# Altium footprint library Connector_Molex.PcbLib: 815 footprints (part 29 of 51)
Each footprint in its own frame and in the unit in brackets; x right, y up, seen from the top. Pads: shape width x height; smd on the part's side, far side on the other; paste and mask are expansions set on the pad; w line width, h text height; cw(c..) or ccw(c..) is an arc to the next point about the centre after c.
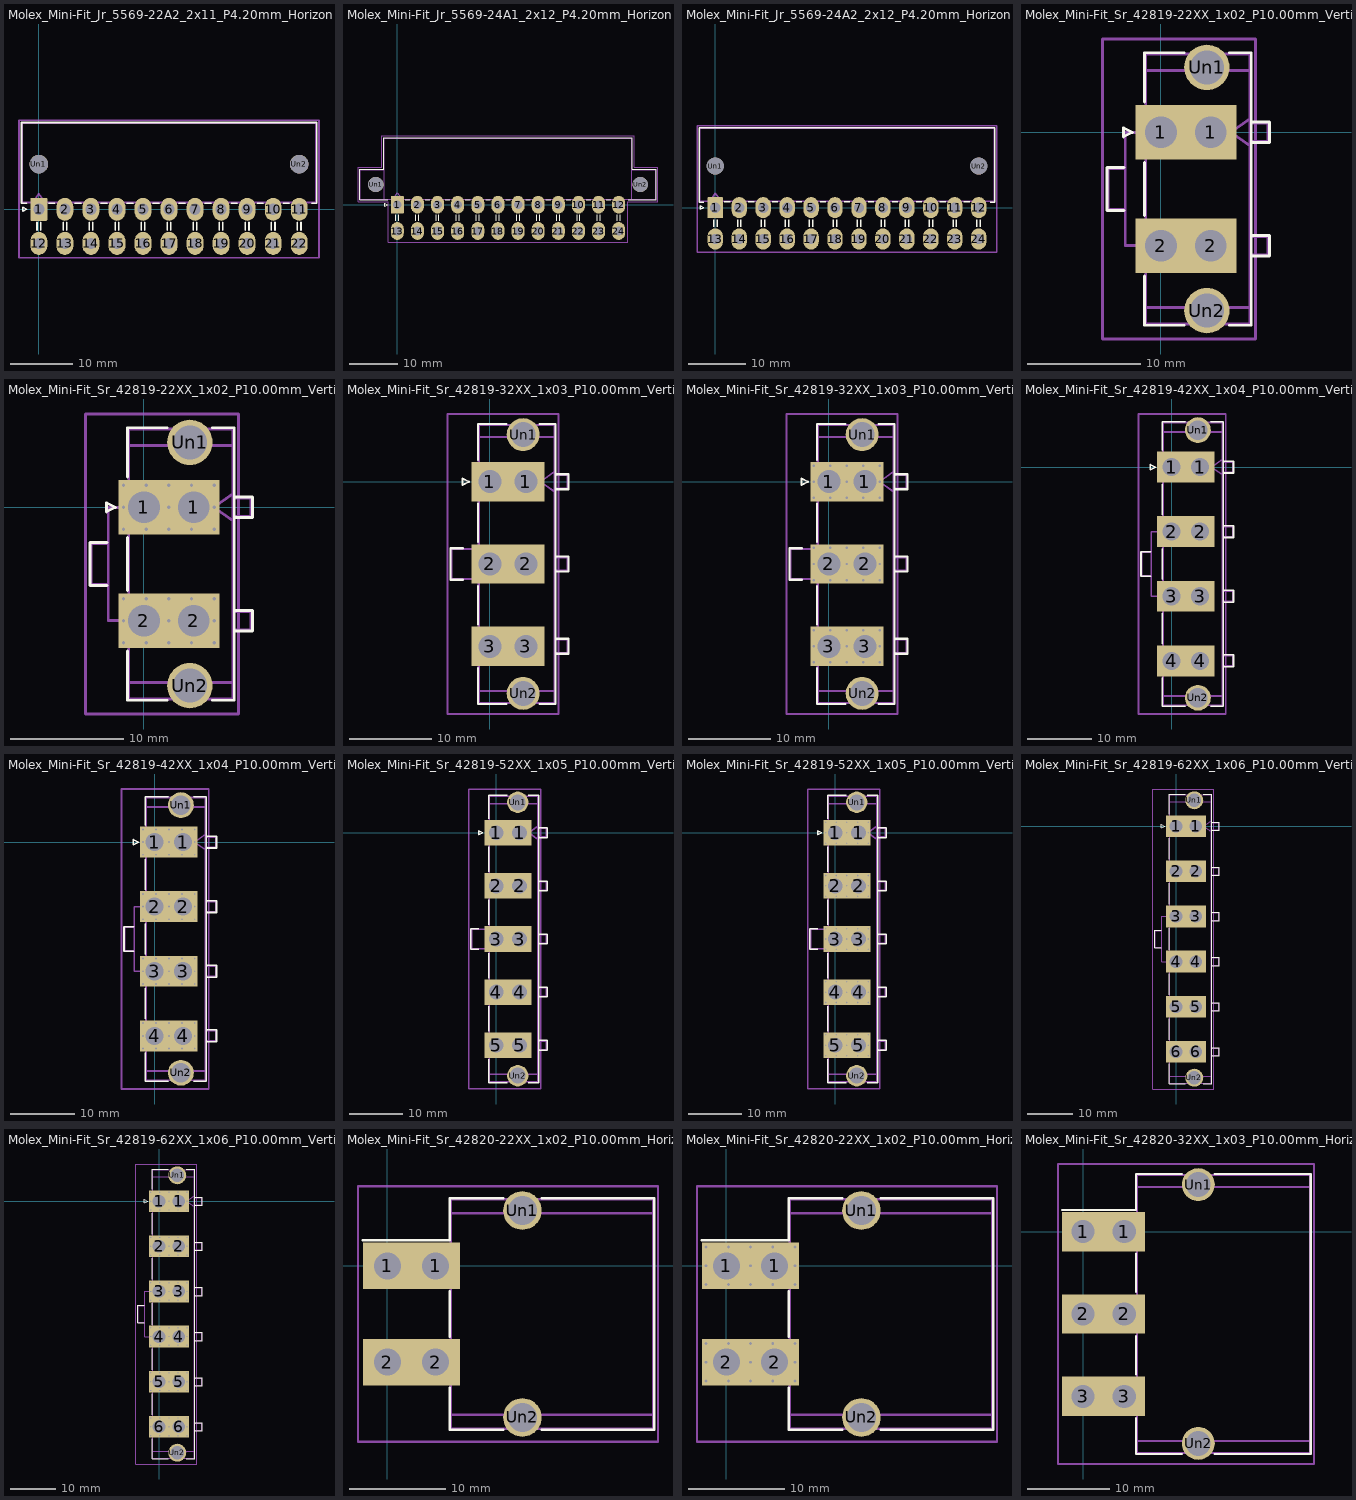
[diagram p28: the footprints below, top view; thin cyan lines are the x and y axes]

## Molex_Mini-Fit_Jr_5569-22A2_2x11_P4.20mm_Horizontal [mm]
pads (24):
  rrect9% 2.7x3.7 hole 1.8: 1(0,0)
  rrect100% 2.7x3.7 hole 1.8: 2(4.2,0) 3(8.4,0) 4(12.6,0) 5(16.8,0) 6(21,0) 7(25.2,0) 8(29.4,0) 9(33.6,0) 10(37.8,0) 11(42,0) 12(0,-5.5) 13(4.2,-5.5) 14(8.4,-5.5) 15(12.6,-5.5) 16(16.8,-5.5) 17(21,-5.5) 18(25.2,-5.5) 19(29.4,-5.5) 20(33.6,-5.5) 21(37.8,-5.5) 22(42,-5.5)
  round 3 hole 3: Un1(0,7.3) Un2(42,7.3)
F.SilkS:
  lines w0.254: -2,0.99 -2.81,0.99 -2.81,14.01 21,14.01 44.81,14.01 44.81,0.99 44,0.99 ; -0.3,-3.39 -0.3,-2.11 ; 0.3,-3.39 0.3,-2.11 ; 1.61,1 2.59,1 ; 3.9,-3.39 3.9,-2.11 ; 4.5,-3.39 4.5,-2.11 ; 5.81,1 6.79,1 ; 8.1,-3.39 8.1,-2.11 ; 8.7,-3.39 8.7,-2.11 ; 10.01,1 10.99,1 ; 12.3,-3.39 12.3,-2.11 ; 12.9,-3.39 12.9,-2.11 ; 14.21,1 15.19,1 ; 16.5,-3.39 16.5,-2.11 ; 17.1,-3.39 17.1,-2.11 ; 18.41,1 19.39,1 ; 20.7,-3.39 20.7,-2.11 ; 21.3,-3.39 21.3,-2.11 ; 22.61,1 23.59,1 ; 24.9,-3.39 24.9,-2.11 ; 25.5,-3.39 25.5,-2.11 ; 26.81,1 27.79,1 ; 29.1,-3.39 29.1,-2.11 ; 29.7,-3.39 29.7,-2.11 ; 31.01,1 31.99,1 ; 33.3,-3.39 33.3,-2.11 ; 33.9,-3.39 33.9,-2.11 ; 35.21,1 36.19,1 ; 37.5,-3.39 37.5,-2.11 ; 38.1,-3.39 38.1,-2.11 ; 39.41,1 40.39,1 ; 41.7,-3.39 41.7,-2.11 ; 42.3,-3.39 42.3,-2.11 ; -2.6,-0.3 -2,0 -2.6,0.3 -2.6,-0.3
Top Assembly:
  lines w0.254: -1,1.1 0,2.514 1,1.1 ; -2.7,1.1 44.7,1.1 44.7,13.9 -2.7,13.9 -2.7,1.1
  text "'.Designator'" at 16.953,12.36 h1
Top Courtyard:
  lines w0.254: -3.21,-7.85 45.2,-7.85 45.2,14.4 -3.21,14.4 -3.21,-7.85
Top Designator:
  text ".Designator" at 13.377,2.767 h1.52

## Molex_Mini-Fit_Jr_5569-24A1_2x12_P4.20mm_Horizontal [mm]
pads (26):
  rrect9% 2.7x3.7 hole 1.8: 1(0,0)
  rrect100% 2.7x3.7 hole 1.8: 2(4.2,0) 3(8.4,0) 4(12.6,0) 5(16.8,0) 6(21,0) 7(25.2,0) 8(29.4,0) 9(33.6,0) 10(37.8,0) 11(42,0) 12(46.2,0) 13(0,-5.5) 14(4.2,-5.5) 15(8.4,-5.5) 16(12.6,-5.5) 17(16.8,-5.5) 18(21,-5.5) 19(25.2,-5.5) 20(29.4,-5.5) 21(33.6,-5.5) 22(37.8,-5.5) 23(42,-5.5) 24(46.2,-5.5)
  round 3.2 hole 3.2: Un1(-4.5,4.2) Un2(50.7,4.2)
F.SilkS:
  lines w0.254: -2,0.99 -7.81,0.99 -7.81,7.41 -2.81,7.41 -2.81,14.01 23.1,14.01 49.01,14.01 49.01,7.41 54.01,7.41 54.01,0.99 48.2,0.99 ; -0.3,-3.39 -0.3,-2.11 ; 0.3,-3.39 0.3,-2.11 ; 1.61,1 2.59,1 ; 3.9,-3.39 3.9,-2.11 ; 4.5,-3.39 4.5,-2.11 ; 5.81,1 6.79,1 ; 8.1,-3.39 8.1,-2.11 ; 8.7,-3.39 8.7,-2.11 ; 10.01,1 10.99,1 ; 12.3,-3.39 12.3,-2.11 ; 12.9,-3.39 12.9,-2.11 ; 14.21,1 15.19,1 ; 16.5,-3.39 16.5,-2.11 ; 17.1,-3.39 17.1,-2.11 ; 18.41,1 19.39,1 ; 20.7,-3.39 20.7,-2.11 ; 21.3,-3.39 21.3,-2.11 ; 22.61,1 23.59,1 ; 24.9,-3.39 24.9,-2.11 ; 25.5,-3.39 25.5,-2.11 ; 26.81,1 27.79,1 ; 29.1,-3.39 29.1,-2.11 ; 29.7,-3.39 29.7,-2.11 ; 31.01,1 31.99,1 ; 33.3,-3.39 33.3,-2.11 ; 33.9,-3.39 33.9,-2.11 ; 35.21,1 36.19,1 ; 37.5,-3.39 37.5,-2.11 ; 38.1,-3.39 38.1,-2.11 ; 39.41,1 40.39,1 ; 41.7,-3.39 41.7,-2.11 ; 42.3,-3.39 42.3,-2.11 ; 43.61,1 44.59,1 ; 45.9,-3.39 45.9,-2.11 ; 46.5,-3.39 46.5,-2.11 ; -2.6,-0.3 -2,0 -2.6,0.3 -2.6,-0.3
Top Assembly:
  lines w0.254: -2.7,7.3 -7.7,7.3 -7.7,1.1 -2.7,1.1 ; -1,1.1 0,2.514 1,1.1 ; 48.9,7.3 53.9,7.3 53.9,1.1 48.9,1.1 ; -2.7,1.1 48.9,1.1 ; -2.7,1.1 -2.7,13.9 48.9,13.9 48.9,1.1
  text "'.Designator'" at 19.053,12.36 h1
Top Courtyard:
  lines w0.254: -8.2,0.6 -1.85,0.6 -1.85,-7.85 23.1,-7.85 48.05,-7.85 48.05,0.6 54.4,0.6 54.4,7.8 49.41,7.8 49.41,14.4 23.1,14.4 -3.21,14.4 -3.21,7.8 -8.2,7.8 -8.2,0.6
Top Designator:
  text ".Designator" at 15.482,2.767 h1.52

## Molex_Mini-Fit_Jr_5569-24A2_2x12_P4.20mm_Horizontal [mm]
pads (26):
  rrect9% 2.7x3.7 hole 1.8: 1(0,0)
  rrect100% 2.7x3.7 hole 1.8: 2(4.2,0) 3(8.4,0) 4(12.6,0) 5(16.8,0) 6(21,0) 7(25.2,0) 8(29.4,0) 9(33.6,0) 10(37.8,0) 11(42,0) 12(46.2,0) 13(0,-5.5) 14(4.2,-5.5) 15(8.4,-5.5) 16(12.6,-5.5) 17(16.8,-5.5) 18(21,-5.5) 19(25.2,-5.5) 20(29.4,-5.5) 21(33.6,-5.5) 22(37.8,-5.5) 23(42,-5.5) 24(46.2,-5.5)
  round 3 hole 3: Un1(0,7.3) Un2(46.2,7.3)
F.SilkS:
  lines w0.254: -2,0.99 -2.81,0.99 -2.81,14.01 23.1,14.01 49.01,14.01 49.01,0.99 48.2,0.99 ; -0.3,-3.39 -0.3,-2.11 ; 0.3,-3.39 0.3,-2.11 ; 1.61,1 2.59,1 ; 3.9,-3.39 3.9,-2.11 ; 4.5,-3.39 4.5,-2.11 ; 5.81,1 6.79,1 ; 8.1,-3.39 8.1,-2.11 ; 8.7,-3.39 8.7,-2.11 ; 10.01,1 10.99,1 ; 12.3,-3.39 12.3,-2.11 ; 12.9,-3.39 12.9,-2.11 ; 14.21,1 15.19,1 ; 16.5,-3.39 16.5,-2.11 ; 17.1,-3.39 17.1,-2.11 ; 18.41,1 19.39,1 ; 20.7,-3.39 20.7,-2.11 ; 21.3,-3.39 21.3,-2.11 ; 22.61,1 23.59,1 ; 24.9,-3.39 24.9,-2.11 ; 25.5,-3.39 25.5,-2.11 ; 26.81,1 27.79,1 ; 29.1,-3.39 29.1,-2.11 ; 29.7,-3.39 29.7,-2.11 ; 31.01,1 31.99,1 ; 33.3,-3.39 33.3,-2.11 ; 33.9,-3.39 33.9,-2.11 ; 35.21,1 36.19,1 ; 37.5,-3.39 37.5,-2.11 ; 38.1,-3.39 38.1,-2.11 ; 39.41,1 40.39,1 ; 41.7,-3.39 41.7,-2.11 ; 42.3,-3.39 42.3,-2.11 ; 43.61,1 44.59,1 ; 45.9,-3.39 45.9,-2.11 ; 46.5,-3.39 46.5,-2.11 ; -2.6,-0.3 -2,0 -2.6,0.3 -2.6,-0.3
Top Assembly:
  lines w0.254: -1,1.1 0,2.514 1,1.1 ; -2.7,1.1 48.9,1.1 48.9,13.9 -2.7,13.9 -2.7,1.1
  text "'.Designator'" at 19.053,12.36 h1
Top Courtyard:
  lines w0.254: -3.21,-7.85 49.41,-7.85 49.41,14.4 -3.21,14.4 -3.21,-7.85
Top Designator:
  text ".Designator" at 15.482,2.767 h1.52

## Molex_Mini-Fit_Sr_42819-22XX_1x02_P10.00mm_Vertical [mm]
pads (6):
  rect 4.5x4.8 hole 2.8: 1(0,0) 1(4.4,0) 2(0,-10) 2(4.4,-10)
  round 4 hole 3: Un1(4.05,5.73) Un2(4.05,-15.73)
F.SilkS:
  lines w0.254: -3.25,-6.91 -4.75,-6.91 -4.75,-3.09 -3.25,-3.09 ; -1.45,-12.66 -1.45,-17.02 2.05,-17.02 ; -1.45,-7.34 -1.45,-2.66 ; -1.45,2.66 -1.45,7.02 2.05,7.02 ; 6.05,-17.02 7.97,-17.02 7.97,-5 7.97,7.02 6.05,7.02 ; 7.97,-10.91 9.57,-10.91 9.57,-9.09 7.97,-9.09 ; 7.97,-0.91 9.57,-0.91 9.57,0.91 7.97,0.91 ; -3.31,-0.4 -2.51,0 -3.31,0.4 -3.31,-0.4
B.SilkS:
  lines w0.254: -2.51,-2.66 6.91,-2.66 6.91,2.66 -2.51,2.66 -2.51,-2.66
Top Assembly:
  lines w0.254: -1.34,-15.45 7.86,-15.45 ; -1.34,-1.2 0.357,0 -1.34,1.2 ; -1.34,5.45 7.86,5.45 ; 7.86,-10.8 9.46,-10.8 9.46,-9.2 7.86,-9.2 ; 7.86,-1.2 6.163,0 7.86,1.2 ; 7.86,-0.8 9.46,-0.8 9.46,0.8 7.86,0.8 ; -4.64,-6.8 -3.14,-6.8 -3.14,-3.2 -4.64,-3.2 -4.64,-6.8 ; -3.14,-10 -1.34,-10 -1.34,0 -3.14,0 -3.14,-10 ; -1.34,-16.91 7.86,-16.91 7.86,6.91 -1.34,6.91 -1.34,-16.91
  text "'.Designator'" at -0.787,-15.59 h1
Top Courtyard:
  lines w0.254: -5.14,-18.23 8.36,-18.23 8.36,8.23 -5.14,8.23 -5.14,-18.23
Top Designator:
  text ".Designator" at -5.403,-5.508 h1.52

## Molex_Mini-Fit_Sr_42819-22XX_1x02_P10.00mm_Vertical_ThermalVias [mm]
pads (32):
  rrect25% 0.6x0.6 hole 0.3: 1(-1.8,-1.95) 1(-1.8,0) 1(-1.8,1.95) 1(0.2,-1.95) 1(0.2,1.95) 1(2.2,-1.95) 1(2.2,0) 1(2.2,1.95) 1(4.2,-1.95) 1(4.2,1.95) 1(6.2,-1.95) 1(6.2,0) 1(6.2,1.95)
  rect 4.5x4.8 hole 2.8: 1(0,0) 1(4.4,0) 2(0,-10) 2(4.4,-10)
  round 0.6 hole 0.3: 2(-1.8,-11.95) 2(-1.8,-10) 2(-1.8,-8.05) 2(0.2,-11.95) 2(0.2,-8.05) 2(2.2,-11.95) 2(2.2,-10) 2(2.2,-8.05) 2(4.2,-11.95) 2(4.2,-8.05) 2(6.2,-11.95) 2(6.2,-10) 2(6.2,-8.05)
  round 4 hole 3: Un1(4.05,5.73) Un2(4.05,-15.73)
F.SilkS:
  lines w0.254: -3.25,-6.91 -4.75,-6.91 -4.75,-3.09 -3.25,-3.09 ; -1.45,-12.66 -1.45,-17.02 2.05,-17.02 ; -1.45,-7.34 -1.45,-2.66 ; -1.45,2.66 -1.45,7.02 2.05,7.02 ; 6.05,-17.02 7.97,-17.02 7.97,-5 7.97,7.02 6.05,7.02 ; 7.97,-10.91 9.57,-10.91 9.57,-9.09 7.97,-9.09 ; 7.97,-0.91 9.57,-0.91 9.57,0.91 7.97,0.91 ; -3.31,-0.4 -2.51,0 -3.31,0.4 -3.31,-0.4
B.SilkS:
  lines w0.254: -2.51,-2.66 6.91,-2.66 6.91,2.66 -2.51,2.66 -2.51,-2.66
Top Assembly:
  lines w0.254: -1.34,-15.45 7.86,-15.45 ; -1.34,-1.2 0.357,0 -1.34,1.2 ; -1.34,5.45 7.86,5.45 ; 7.86,-10.8 9.46,-10.8 9.46,-9.2 7.86,-9.2 ; 7.86,-1.2 6.163,0 7.86,1.2 ; 7.86,-0.8 9.46,-0.8 9.46,0.8 7.86,0.8 ; -4.64,-6.8 -3.14,-6.8 -3.14,-3.2 -4.64,-3.2 -4.64,-6.8 ; -3.14,-10 -1.34,-10 -1.34,0 -3.14,0 -3.14,-10 ; -1.34,-16.91 7.86,-16.91 7.86,6.91 -1.34,6.91 -1.34,-16.91
  text "'.Designator'" at -0.787,-15.59 h1
Top Courtyard:
  lines w0.254: -5.14,-18.23 8.36,-18.23 8.36,8.23 -5.14,8.23 -5.14,-18.23
Top Designator:
  text ".Designator" at -5.403,-5.508 h1.52

## Molex_Mini-Fit_Sr_42819-32XX_1x03_P10.00mm_Vertical [mm]
pads (8):
  rect 4.5x4.8 hole 2.8: 1(0,0) 1(4.4,0) 2(0,-10) 2(4.4,-10) 3(0,-20) 3(4.4,-20)
  round 4 hole 3: Un1(4.05,5.73) Un2(4.05,-25.73)
F.SilkS:
  lines w0.254: -3.25,-11.91 -4.75,-11.91 -4.75,-8.09 -3.25,-8.09 ; -1.45,-22.66 -1.45,-27.02 2.05,-27.02 ; -1.45,-17.34 -1.45,-12.66 ; -1.45,-7.34 -1.45,-2.66 ; -1.45,2.66 -1.45,7.02 2.05,7.02 ; 6.05,-27.02 7.97,-27.02 7.97,-10 7.97,7.02 6.05,7.02 ; 7.97,-20.91 9.57,-20.91 9.57,-19.09 7.97,-19.09 ; 7.97,-10.91 9.57,-10.91 9.57,-9.09 7.97,-9.09 ; 7.97,-0.91 9.57,-0.91 9.57,0.91 7.97,0.91 ; -3.31,-0.4 -2.51,0 -3.31,0.4 -3.31,-0.4
B.SilkS:
  lines w0.254: -2.51,-2.66 6.91,-2.66 6.91,2.66 -2.51,2.66 -2.51,-2.66
Top Assembly:
  lines w0.254: -1.34,-25.45 7.86,-25.45 ; -1.34,-1.2 0.357,0 -1.34,1.2 ; -1.34,5.45 7.86,5.45 ; 7.86,-20.8 9.46,-20.8 9.46,-19.2 7.86,-19.2 ; 7.86,-10.8 9.46,-10.8 9.46,-9.2 7.86,-9.2 ; 7.86,-1.2 6.163,0 7.86,1.2 ; 7.86,-0.8 9.46,-0.8 9.46,0.8 7.86,0.8 ; -4.64,-11.8 -1.34,-11.8 -1.34,-8.2 -4.64,-8.2 -4.64,-11.8 ; -1.34,-26.91 7.86,-26.91 7.86,6.91 -1.34,6.91 -1.34,-26.91
  text "'.Designator'" at -0.787,-25.59 h1
Top Courtyard:
  lines w0.254: -5.14,-28.23 8.36,-28.23 8.36,8.23 -5.14,8.23 -5.14,-28.23
Top Designator:
  text ".Designator" at -5.403,-10.508 h1.52

## Molex_Mini-Fit_Sr_42819-32XX_1x03_P10.00mm_Vertical_ThermalVias [mm]
pads (47):
  rrect25% 0.6x0.6 hole 0.3: 1(-1.8,-1.95) 1(-1.8,0) 1(-1.8,1.95) 1(0.2,-1.95) 1(0.2,1.95) 1(2.2,-1.95) 1(2.2,0) 1(2.2,1.95) 1(4.2,-1.95) 1(4.2,1.95) 1(6.2,-1.95) 1(6.2,0) 1(6.2,1.95)
  rect 4.5x4.8 hole 2.8: 1(0,0) 1(4.4,0) 2(0,-10) 2(4.4,-10) 3(0,-20) 3(4.4,-20)
  round 0.6 hole 0.3: 2(-1.8,-11.95) 2(-1.8,-10) 2(-1.8,-8.05) 2(0.2,-11.95) 2(0.2,-8.05) 2(2.2,-11.95) 2(2.2,-10) 2(2.2,-8.05) 2(4.2,-11.95) 2(4.2,-8.05) 2(6.2,-11.95) 2(6.2,-10) 2(6.2,-8.05) 3(-1.8,-21.95) 3(-1.8,-20) 3(-1.8,-18.05) 3(0.2,-21.95) 3(0.2,-18.05) 3(2.2,-21.95) 3(2.2,-20) 3(2.2,-18.05) 3(4.2,-21.95) 3(4.2,-18.05) 3(6.2,-21.95) 3(6.2,-20) 3(6.2,-18.05)
  round 4 hole 3: Un1(4.05,5.73) Un2(4.05,-25.73)
F.SilkS:
  lines w0.254: -3.25,-11.91 -4.75,-11.91 -4.75,-8.09 -3.25,-8.09 ; -1.45,-22.66 -1.45,-27.02 2.05,-27.02 ; -1.45,-17.34 -1.45,-12.66 ; -1.45,-7.34 -1.45,-2.66 ; -1.45,2.66 -1.45,7.02 2.05,7.02 ; 6.05,-27.02 7.97,-27.02 7.97,-10 7.97,7.02 6.05,7.02 ; 7.97,-20.91 9.57,-20.91 9.57,-19.09 7.97,-19.09 ; 7.97,-10.91 9.57,-10.91 9.57,-9.09 7.97,-9.09 ; 7.97,-0.91 9.57,-0.91 9.57,0.91 7.97,0.91 ; -3.31,-0.4 -2.51,0 -3.31,0.4 -3.31,-0.4
B.SilkS:
  lines w0.254: -2.51,-2.66 6.91,-2.66 6.91,2.66 -2.51,2.66 -2.51,-2.66
Top Assembly:
  lines w0.254: -1.34,-25.45 7.86,-25.45 ; -1.34,-1.2 0.357,0 -1.34,1.2 ; -1.34,5.45 7.86,5.45 ; 7.86,-20.8 9.46,-20.8 9.46,-19.2 7.86,-19.2 ; 7.86,-10.8 9.46,-10.8 9.46,-9.2 7.86,-9.2 ; 7.86,-1.2 6.163,0 7.86,1.2 ; 7.86,-0.8 9.46,-0.8 9.46,0.8 7.86,0.8 ; -4.64,-11.8 -1.34,-11.8 -1.34,-8.2 -4.64,-8.2 -4.64,-11.8 ; -1.34,-26.91 7.86,-26.91 7.86,6.91 -1.34,6.91 -1.34,-26.91
  text "'.Designator'" at -0.787,-25.59 h1
Top Courtyard:
  lines w0.254: -5.14,-28.23 8.36,-28.23 8.36,8.23 -5.14,8.23 -5.14,-28.23
Top Designator:
  text ".Designator" at -5.403,-10.508 h1.52

## Molex_Mini-Fit_Sr_42819-42XX_1x04_P10.00mm_Vertical [mm]
pads (10):
  rect 4.5x4.8 hole 2.8: 1(0,0) 1(4.4,0) 2(0,-10) 2(4.4,-10) 3(0,-20) 3(4.4,-20) 4(0,-30) 4(4.4,-30)
  round 4 hole 3: Un1(4.05,5.73) Un2(4.05,-35.73)
F.SilkS:
  lines w0.254: -3.25,-16.91 -4.75,-16.91 -4.75,-13.09 -3.25,-13.09 ; -1.45,-32.66 -1.45,-37.02 2.05,-37.02 ; -1.45,-27.34 -1.45,-22.66 ; -1.45,-17.34 -1.45,-12.66 ; -1.45,-7.34 -1.45,-2.66 ; -1.45,2.66 -1.45,7.02 2.05,7.02 ; 6.05,-37.02 7.97,-37.02 7.97,-15 7.97,7.02 6.05,7.02 ; 7.97,-30.91 9.57,-30.91 9.57,-29.09 7.97,-29.09 ; 7.97,-20.91 9.57,-20.91 9.57,-19.09 7.97,-19.09 ; 7.97,-10.91 9.57,-10.91 9.57,-9.09 7.97,-9.09 ; 7.97,-0.91 9.57,-0.91 9.57,0.91 7.97,0.91 ; -3.31,-0.4 -2.51,0 -3.31,0.4 -3.31,-0.4
B.SilkS:
  lines w0.254: -2.51,-2.66 6.91,-2.66 6.91,2.66 -2.51,2.66 -2.51,-2.66
Top Assembly:
  lines w0.254: -1.34,-35.45 7.86,-35.45 ; -1.34,-1.2 0.357,0 -1.34,1.2 ; -1.34,5.45 7.86,5.45 ; 7.86,-30.8 9.46,-30.8 9.46,-29.2 7.86,-29.2 ; 7.86,-20.8 9.46,-20.8 9.46,-19.2 7.86,-19.2 ; 7.86,-10.8 9.46,-10.8 9.46,-9.2 7.86,-9.2 ; 7.86,-1.2 6.163,0 7.86,1.2 ; 7.86,-0.8 9.46,-0.8 9.46,0.8 7.86,0.8 ; -4.64,-16.8 -3.14,-16.8 -3.14,-13.2 -4.64,-13.2 -4.64,-16.8 ; -3.14,-20 -1.34,-20 -1.34,-10 -3.14,-10 -3.14,-20 ; -1.34,-36.91 7.86,-36.91 7.86,6.91 -1.34,6.91 -1.34,-36.91
  text "'.Designator'" at -0.787,-35.59 h1
Top Courtyard:
  lines w0.254: -5.14,-38.24 8.36,-38.24 8.36,8.23 -5.14,8.23 -5.14,-38.24
Top Designator:
  text ".Designator" at -5.403,-15.513 h1.52

## Molex_Mini-Fit_Sr_42819-42XX_1x04_P10.00mm_Vertical_ThermalVias [mm]
pads (62):
  rrect25% 0.6x0.6 hole 0.3: 1(-1.8,-1.95) 1(-1.8,0) 1(-1.8,1.95) 1(0.2,-1.95) 1(0.2,1.95) 1(2.2,-1.95) 1(2.2,0) 1(2.2,1.95) 1(4.2,-1.95) 1(4.2,1.95) 1(6.2,-1.95) 1(6.2,0) 1(6.2,1.95)
  rect 4.5x4.8 hole 2.8: 1(0,0) 1(4.4,0) 2(0,-10) 2(4.4,-10) 3(0,-20) 3(4.4,-20) 4(0,-30) 4(4.4,-30)
  round 0.6 hole 0.3: 2(-1.8,-11.95) 2(-1.8,-10) 2(-1.8,-8.05) 2(0.2,-11.95) 2(0.2,-8.05) 2(2.2,-11.95) 2(2.2,-10) 2(2.2,-8.05) 2(4.2,-11.95) 2(4.2,-8.05) 2(6.2,-11.95) 2(6.2,-10) 2(6.2,-8.05) 3(-1.8,-21.95) 3(-1.8,-20) 3(-1.8,-18.05) 3(0.2,-21.95) 3(0.2,-18.05) 3(2.2,-21.95) 3(2.2,-20) 3(2.2,-18.05) 3(4.2,-21.95) 3(4.2,-18.05) 3(6.2,-21.95) 3(6.2,-20) 3(6.2,-18.05) 4(-1.8,-31.95) 4(-1.8,-30) 4(-1.8,-28.05) 4(0.2,-31.95) 4(0.2,-28.05) 4(2.2,-31.95) 4(2.2,-30) 4(2.2,-28.05) 4(4.2,-31.95) 4(4.2,-28.05) 4(6.2,-31.95) 4(6.2,-30) 4(6.2,-28.05)
  round 4 hole 3: Un1(4.05,5.73) Un2(4.05,-35.73)
F.SilkS:
  lines w0.254: -3.25,-16.91 -4.75,-16.91 -4.75,-13.09 -3.25,-13.09 ; -1.45,-32.66 -1.45,-37.02 2.05,-37.02 ; -1.45,-27.34 -1.45,-22.66 ; -1.45,-17.34 -1.45,-12.66 ; -1.45,-7.34 -1.45,-2.66 ; -1.45,2.66 -1.45,7.02 2.05,7.02 ; 6.05,-37.02 7.97,-37.02 7.97,-15 7.97,7.02 6.05,7.02 ; 7.97,-30.91 9.57,-30.91 9.57,-29.09 7.97,-29.09 ; 7.97,-20.91 9.57,-20.91 9.57,-19.09 7.97,-19.09 ; 7.97,-10.91 9.57,-10.91 9.57,-9.09 7.97,-9.09 ; 7.97,-0.91 9.57,-0.91 9.57,0.91 7.97,0.91 ; -3.31,-0.4 -2.51,0 -3.31,0.4 -3.31,-0.4
B.SilkS:
  lines w0.254: -2.51,-2.66 6.91,-2.66 6.91,2.66 -2.51,2.66 -2.51,-2.66
Top Assembly:
  lines w0.254: -1.34,-35.45 7.86,-35.45 ; -1.34,-1.2 0.357,0 -1.34,1.2 ; -1.34,5.45 7.86,5.45 ; 7.86,-30.8 9.46,-30.8 9.46,-29.2 7.86,-29.2 ; 7.86,-20.8 9.46,-20.8 9.46,-19.2 7.86,-19.2 ; 7.86,-10.8 9.46,-10.8 9.46,-9.2 7.86,-9.2 ; 7.86,-1.2 6.163,0 7.86,1.2 ; 7.86,-0.8 9.46,-0.8 9.46,0.8 7.86,0.8 ; -4.64,-16.8 -3.14,-16.8 -3.14,-13.2 -4.64,-13.2 -4.64,-16.8 ; -3.14,-20 -1.34,-20 -1.34,-10 -3.14,-10 -3.14,-20 ; -1.34,-36.91 7.86,-36.91 7.86,6.91 -1.34,6.91 -1.34,-36.91
  text "'.Designator'" at -0.787,-35.59 h1
Top Courtyard:
  lines w0.254: -5.14,-38.24 8.36,-38.24 8.36,8.23 -5.14,8.23 -5.14,-38.24
Top Designator:
  text ".Designator" at -5.403,-15.513 h1.52

## Molex_Mini-Fit_Sr_42819-52XX_1x05_P10.00mm_Vertical [mm]
pads (12):
  rect 4.5x4.8 hole 2.8: 1(0,0) 1(4.4,0) 2(0,-10) 2(4.4,-10) 3(0,-20) 3(4.4,-20) 4(0,-30) 4(4.4,-30) 5(0,-40) 5(4.4,-40)
  round 4 hole 3: Un1(4.05,5.73) Un2(4.05,-45.73)
F.SilkS:
  lines w0.254: -3.25,-21.91 -4.75,-21.91 -4.75,-18.09 -3.25,-18.09 ; -1.45,-42.66 -1.45,-47.02 2.05,-47.02 ; -1.45,-37.34 -1.45,-32.66 ; -1.45,-27.34 -1.45,-22.66 ; -1.45,-17.34 -1.45,-12.66 ; -1.45,-7.34 -1.45,-2.66 ; -1.45,2.66 -1.45,7.02 2.05,7.02 ; 6.05,-47.02 7.97,-47.02 7.97,-20 7.97,7.02 6.05,7.02 ; 7.97,-40.91 9.57,-40.91 9.57,-39.09 7.97,-39.09 ; 7.97,-30.91 9.57,-30.91 9.57,-29.09 7.97,-29.09 ; 7.97,-20.91 9.57,-20.91 9.57,-19.09 7.97,-19.09 ; 7.97,-10.91 9.57,-10.91 9.57,-9.09 7.97,-9.09 ; 7.97,-0.91 9.57,-0.91 9.57,0.91 7.97,0.91 ; -3.31,-0.4 -3.31,0.4 -2.51,0 -3.31,-0.4
B.SilkS:
  lines w0.254: -2.51,-2.66 -2.51,2.66 6.91,2.66 6.91,-2.66 -2.51,-2.66
Top Assembly:
  lines w0.254: -1.34,-45.45 7.86,-45.45 ; -1.34,-1.2 0.357,0 -1.34,1.2 ; -1.34,5.45 7.86,5.45 ; 7.86,-40.8 9.46,-40.8 9.46,-39.2 7.86,-39.2 ; 7.86,-30.8 9.46,-30.8 9.46,-29.2 7.86,-29.2 ; 7.86,-20.8 9.46,-20.8 9.46,-19.2 7.86,-19.2 ; 7.86,-10.8 9.46,-10.8 9.46,-9.2 7.86,-9.2 ; 7.86,-1.2 6.163,0 7.86,1.2 ; 7.86,-0.8 9.46,-0.8 9.46,0.8 7.86,0.8 ; -4.64,-21.8 -4.64,-18.2 -1.34,-18.2 -1.34,-21.8 -4.64,-21.8 ; -1.34,-46.91 -1.34,6.91 7.86,6.91 7.86,-46.91 -1.34,-46.91
  text "'.Designator'" at -0.787,-45.59 h1
Top Courtyard:
  lines w0.254: -5.14,-48.23 -5.14,8.23 8.36,8.23 8.36,-48.23 -5.14,-48.23
Top Designator:
  text ".Designator" at -5.403,-20.508 h1.52

## Molex_Mini-Fit_Sr_42819-52XX_1x05_P10.00mm_Vertical_ThermalVias [mm]
pads (77):
  rrect25% 0.6x0.6 hole 0.3: 1(-1.8,-1.95) 1(-1.8,0) 1(-1.8,1.95) 1(0.2,-1.95) 1(0.2,1.95) 1(2.2,-1.95) 1(2.2,0) 1(2.2,1.95) 1(4.2,-1.95) 1(4.2,1.95) 1(6.2,-1.95) 1(6.2,0) 1(6.2,1.95)
  rect 4.5x4.8 hole 2.8: 1(0,0) 1(4.4,0) 2(0,-10) 2(4.4,-10) 3(0,-20) 3(4.4,-20) 4(0,-30) 4(4.4,-30) 5(0,-40) 5(4.4,-40)
  round 0.6 hole 0.3: 2(-1.8,-11.95) 2(-1.8,-10) 2(-1.8,-8.05) 2(0.2,-11.95) 2(0.2,-8.05) 2(2.2,-11.95) 2(2.2,-10) 2(2.2,-8.05) 2(4.2,-11.95) 2(4.2,-8.05) 2(6.2,-11.95) 2(6.2,-10) 2(6.2,-8.05) 3(-1.8,-21.95) 3(-1.8,-20) 3(-1.8,-18.05) 3(0.2,-21.95) 3(0.2,-18.05) 3(2.2,-21.95) 3(2.2,-20) 3(2.2,-18.05) 3(4.2,-21.95) 3(4.2,-18.05) 3(6.2,-21.95) 3(6.2,-20) 3(6.2,-18.05) 4(-1.8,-31.95) 4(-1.8,-30) 4(-1.8,-28.05) 4(0.2,-31.95) 4(0.2,-28.05) 4(2.2,-31.95) 4(2.2,-30) 4(2.2,-28.05) 4(4.2,-31.95) 4(4.2,-28.05) 4(6.2,-31.95) 4(6.2,-30) 4(6.2,-28.05) 5(-1.8,-41.95) 5(-1.8,-40) 5(-1.8,-38.05) 5(0.2,-41.95) 5(0.2,-38.05) 5(2.2,-41.95) 5(2.2,-40) 5(2.2,-38.05) 5(4.2,-41.95) 5(4.2,-38.05) 5(6.2,-41.95) 5(6.2,-40) 5(6.2,-38.05)
  round 4 hole 3: Un1(4.05,5.73) Un2(4.05,-45.73)
F.SilkS:
  lines w0.254: -3.25,-21.91 -4.75,-21.91 -4.75,-18.09 -3.25,-18.09 ; -1.45,-42.66 -1.45,-47.02 2.05,-47.02 ; -1.45,-37.34 -1.45,-32.66 ; -1.45,-27.34 -1.45,-22.66 ; -1.45,-17.34 -1.45,-12.66 ; -1.45,-7.34 -1.45,-2.66 ; -1.45,2.66 -1.45,7.02 2.05,7.02 ; 6.05,-47.02 7.97,-47.02 7.97,-20 7.97,7.02 6.05,7.02 ; 7.97,-40.91 9.57,-40.91 9.57,-39.09 7.97,-39.09 ; 7.97,-30.91 9.57,-30.91 9.57,-29.09 7.97,-29.09 ; 7.97,-20.91 9.57,-20.91 9.57,-19.09 7.97,-19.09 ; 7.97,-10.91 9.57,-10.91 9.57,-9.09 7.97,-9.09 ; 7.97,-0.91 9.57,-0.91 9.57,0.91 7.97,0.91 ; -3.31,-0.4 -3.31,0.4 -2.51,0 -3.31,-0.4
B.SilkS:
  lines w0.254: -2.51,-2.66 -2.51,2.66 6.91,2.66 6.91,-2.66 -2.51,-2.66
Top Assembly:
  lines w0.254: -1.34,-45.45 7.86,-45.45 ; -1.34,-1.2 0.357,0 -1.34,1.2 ; -1.34,5.45 7.86,5.45 ; 7.86,-40.8 9.46,-40.8 9.46,-39.2 7.86,-39.2 ; 7.86,-30.8 9.46,-30.8 9.46,-29.2 7.86,-29.2 ; 7.86,-20.8 9.46,-20.8 9.46,-19.2 7.86,-19.2 ; 7.86,-10.8 9.46,-10.8 9.46,-9.2 7.86,-9.2 ; 7.86,-1.2 6.163,0 7.86,1.2 ; 7.86,-0.8 9.46,-0.8 9.46,0.8 7.86,0.8 ; -4.64,-21.8 -4.64,-18.2 -1.34,-18.2 -1.34,-21.8 -4.64,-21.8 ; -1.34,-46.91 -1.34,6.91 7.86,6.91 7.86,-46.91 -1.34,-46.91
  text "'.Designator'" at -0.787,-45.59 h1
Top Courtyard:
  lines w0.254: -5.14,-48.23 -5.14,8.23 8.36,8.23 8.36,-48.23 -5.14,-48.23
Top Designator:
  text ".Designator" at -5.403,-20.508 h1.52

## Molex_Mini-Fit_Sr_42819-62XX_1x06_P10.00mm_Vertical [mm]
pads (14):
  rect 4.5x4.8 hole 2.8: 1(0,0) 1(4.4,0) 2(0,-10) 2(4.4,-10) 3(0,-20) 3(4.4,-20) 4(0,-30) 4(4.4,-30) 5(0,-40) 5(4.4,-40) 6(0,-50) 6(4.4,-50)
  round 4 hole 3: Un1(4.05,5.73) Un2(4.05,-55.73)
F.SilkS:
  lines w0.254: -3.25,-26.91 -4.75,-26.91 -4.75,-23.09 -3.25,-23.09 ; -1.45,-52.66 -1.45,-57.02 2.05,-57.02 ; -1.45,-47.34 -1.45,-42.66 ; -1.45,-37.34 -1.45,-32.66 ; -1.45,-27.34 -1.45,-22.66 ; -1.45,-17.34 -1.45,-12.66 ; -1.45,-7.34 -1.45,-2.66 ; -1.45,2.66 -1.45,7.02 2.05,7.02 ; 6.05,-57.02 7.97,-57.02 7.97,-25 7.97,7.02 6.05,7.02 ; 7.97,-50.91 9.57,-50.91 9.57,-49.09 7.97,-49.09 ; 7.97,-40.91 9.57,-40.91 9.57,-39.09 7.97,-39.09 ; 7.97,-30.91 9.57,-30.91 9.57,-29.09 7.97,-29.09 ; 7.97,-20.91 9.57,-20.91 9.57,-19.09 7.97,-19.09 ; 7.97,-10.91 9.57,-10.91 9.57,-9.09 7.97,-9.09 ; 7.97,-0.91 9.57,-0.91 9.57,0.91 7.97,0.91 ; -3.31,-0.4 -3.31,0.4 -2.51,0 -3.31,-0.4
B.SilkS:
  lines w0.254: -2.51,-2.66 -2.51,2.66 6.91,2.66 6.91,-2.66 -2.51,-2.66
Top Assembly:
  lines w0.254: -1.34,-55.45 7.86,-55.45 ; -1.34,-1.2 0.357,0 -1.34,1.2 ; -1.34,5.45 7.86,5.45 ; 7.86,-50.8 9.46,-50.8 9.46,-49.2 7.86,-49.2 ; 7.86,-40.8 9.46,-40.8 9.46,-39.2 7.86,-39.2 ; 7.86,-30.8 9.46,-30.8 9.46,-29.2 7.86,-29.2 ; 7.86,-20.8 9.46,-20.8 9.46,-19.2 7.86,-19.2 ; 7.86,-10.8 9.46,-10.8 9.46,-9.2 7.86,-9.2 ; 7.86,-1.2 6.163,0 7.86,1.2 ; 7.86,-0.8 9.46,-0.8 9.46,0.8 7.86,0.8 ; -4.64,-26.8 -4.64,-23.2 -3.14,-23.2 -3.14,-26.8 -4.64,-26.8 ; -3.14,-30 -3.14,-20 -1.34,-20 -1.34,-30 -3.14,-30 ; -1.34,-56.91 -1.34,6.91 7.86,6.91 7.86,-56.91 -1.34,-56.91
  text "'.Designator'" at -0.787,-55.59 h1
Top Courtyard:
  lines w0.254: -5.14,-58.23 -5.14,8.23 8.36,8.23 8.36,-58.23 -5.14,-58.23
Top Designator:
  text ".Designator" at -5.403,-25.508 h1.52

## Molex_Mini-Fit_Sr_42819-62XX_1x06_P10.00mm_Vertical_ThermalVias [mm]
pads (92):
  rrect25% 0.6x0.6 hole 0.3: 1(-1.8,-1.95) 1(-1.8,0) 1(-1.8,1.95) 1(0.2,-1.95) 1(0.2,1.95) 1(2.2,-1.95) 1(2.2,0) 1(2.2,1.95) 1(4.2,-1.95) 1(4.2,1.95) 1(6.2,-1.95) 1(6.2,0) 1(6.2,1.95)
  rect 4.5x4.8 hole 2.8: 1(0,0) 1(4.4,0) 2(0,-10) 2(4.4,-10) 3(0,-20) 3(4.4,-20) 4(0,-30) 4(4.4,-30) 5(0,-40) 5(4.4,-40) 6(0,-50) 6(4.4,-50)
  round 0.6 hole 0.3: 2(-1.8,-11.95) 2(-1.8,-10) 2(-1.8,-8.05) 2(0.2,-11.95) 2(0.2,-8.05) 2(2.2,-11.95) 2(2.2,-10) 2(2.2,-8.05) 2(4.2,-11.95) 2(4.2,-8.05) 2(6.2,-11.95) 2(6.2,-10) 2(6.2,-8.05) 3(-1.8,-21.95) 3(-1.8,-20) 3(-1.8,-18.05) 3(0.2,-21.95) 3(0.2,-18.05) 3(2.2,-21.95) 3(2.2,-20) 3(2.2,-18.05) 3(4.2,-21.95) 3(4.2,-18.05) 3(6.2,-21.95) 3(6.2,-20) 3(6.2,-18.05) 4(-1.8,-31.95) 4(-1.8,-30) 4(-1.8,-28.05) 4(0.2,-31.95) 4(0.2,-28.05) 4(2.2,-31.95) 4(2.2,-30) 4(2.2,-28.05) 4(4.2,-31.95) 4(4.2,-28.05) 4(6.2,-31.95) 4(6.2,-30) 4(6.2,-28.05) 5(-1.8,-41.95) 5(-1.8,-40) 5(-1.8,-38.05) 5(0.2,-41.95) 5(0.2,-38.05) 5(2.2,-41.95) 5(2.2,-40) 5(2.2,-38.05) 5(4.2,-41.95) 5(4.2,-38.05) 5(6.2,-41.95) 5(6.2,-40) 5(6.2,-38.05) 6(-1.8,-51.95) 6(-1.8,-50) 6(-1.8,-48.05) 6(0.2,-51.95) 6(0.2,-48.05) 6(2.2,-51.95) 6(2.2,-50) 6(2.2,-48.05) 6(4.2,-51.95) 6(4.2,-48.05) 6(6.2,-51.95) 6(6.2,-50) 6(6.2,-48.05)
  round 4 hole 3: Un1(4.05,5.73) Un2(4.05,-55.73)
F.SilkS:
  lines w0.254: -3.25,-26.91 -4.75,-26.91 -4.75,-23.09 -3.25,-23.09 ; -1.45,-52.66 -1.45,-57.02 2.05,-57.02 ; -1.45,-47.34 -1.45,-42.66 ; -1.45,-37.34 -1.45,-32.66 ; -1.45,-27.34 -1.45,-22.66 ; -1.45,-17.34 -1.45,-12.66 ; -1.45,-7.34 -1.45,-2.66 ; -1.45,2.66 -1.45,7.02 2.05,7.02 ; 6.05,-57.02 7.97,-57.02 7.97,-25 7.97,7.02 6.05,7.02 ; 7.97,-50.91 9.57,-50.91 9.57,-49.09 7.97,-49.09 ; 7.97,-40.91 9.57,-40.91 9.57,-39.09 7.97,-39.09 ; 7.97,-30.91 9.57,-30.91 9.57,-29.09 7.97,-29.09 ; 7.97,-20.91 9.57,-20.91 9.57,-19.09 7.97,-19.09 ; 7.97,-10.91 9.57,-10.91 9.57,-9.09 7.97,-9.09 ; 7.97,-0.91 9.57,-0.91 9.57,0.91 7.97,0.91 ; -3.31,-0.4 -2.51,0 -3.31,0.4 -3.31,-0.4
B.SilkS:
  lines w0.254: -2.51,-2.66 6.91,-2.66 6.91,2.66 -2.51,2.66 -2.51,-2.66
Top Assembly:
  lines w0.254: -1.34,-55.45 7.86,-55.45 ; -1.34,-1.2 0.357,0 -1.34,1.2 ; -1.34,5.45 7.86,5.45 ; 7.86,-50.8 9.46,-50.8 9.46,-49.2 7.86,-49.2 ; 7.86,-40.8 9.46,-40.8 9.46,-39.2 7.86,-39.2 ; 7.86,-30.8 9.46,-30.8 9.46,-29.2 7.86,-29.2 ; 7.86,-20.8 9.46,-20.8 9.46,-19.2 7.86,-19.2 ; 7.86,-10.8 9.46,-10.8 9.46,-9.2 7.86,-9.2 ; 7.86,-1.2 6.163,0 7.86,1.2 ; 7.86,-0.8 9.46,-0.8 9.46,0.8 7.86,0.8 ; -4.64,-26.8 -3.14,-26.8 -3.14,-23.2 -4.64,-23.2 -4.64,-26.8 ; -3.14,-30 -1.34,-30 -1.34,-20 -3.14,-20 -3.14,-30 ; -1.34,-56.91 7.86,-56.91 7.86,6.91 -1.34,6.91 -1.34,-56.91
  text "'.Designator'" at -0.787,-55.59 h1
Top Courtyard:
  lines w0.254: -5.14,-58.23 8.36,-58.23 8.36,8.23 -5.14,8.23 -5.14,-58.23
Top Designator:
  text ".Designator" at -5.403,-25.508 h1.52

## Molex_Mini-Fit_Sr_42820-22XX_1x02_P10.00mm_Horizontal [mm]
pads (6):
  rect 5.1x4.8 hole 2.8: 1(0,0) 1(5,0) 2(0,-10) 2(5,-10)
  round 4 hole 3: Un1(14,5.73) Un2(14,-15.73)
F.SilkS:
  lines w0.254: -2.55,2.66 6.45,2.66 6.45,7.02 12,7.02 ; 6.45,-12.66 6.45,-17.02 12,-17.02 ; 6.45,-7.34 6.45,-2.66 ; 16,-17.02 27.67,-17.02 27.67,-5 27.67,7.02 16,7.02
B.SilkS:
  lines w0.254: -2.81,-2.66 7.81,-2.66 7.81,2.66 -2.81,2.66 -2.81,-2.66
Top Assembly:
  lines w0.254: -1.04,-1.2 0.657,0 -1.04,1.2 ; 6.56,-15.45 27.56,-15.45 ; 6.56,-1.2 4.863,0 6.56,1.2 ; 6.56,5.45 27.56,5.45 ; -1.04,-11.9 6.56,-11.9 6.56,-8.1 -1.04,-8.1 -1.04,-11.9 ; -1.04,-1.9 6.56,-1.9 6.56,1.9 -1.04,1.9 -1.04,-1.9 ; 6.56,-16.91 27.56,-16.91 27.56,6.91 6.56,6.91 6.56,-16.91
  text "'.Designator'" at 13.013,-15.59 h1
Top Courtyard:
  lines w0.254: -3.05,-18.23 28.06,-18.23 28.06,8.23 -3.05,8.23 -3.05,-18.23
Top Designator:
  text ".Designator" at 4.887,-5.508 h1.52

## Molex_Mini-Fit_Sr_42820-22XX_1x02_P10.00mm_Horizontal_ThermalVias [mm]
pads (32):
  rrect25% 0.6x0.6 hole 0.3: 1(-2.1,-1.95) 1(-2.1,0) 1(-2.1,1.95) 1(0.2,-1.95) 1(0.2,1.95) 1(2.5,-1.95) 1(2.5,0) 1(2.5,1.95) 1(4.8,-1.95) 1(4.8,1.95) 1(7.1,-1.95) 1(7.1,0) 1(7.1,1.95)
  rect 5.1x4.8 hole 2.8: 1(0,0) 1(5,0) 2(0,-10) 2(5,-10)
  round 0.6 hole 0.3: 2(-2.1,-11.95) 2(-2.1,-10) 2(-2.1,-8.05) 2(0.2,-11.95) 2(0.2,-8.05) 2(2.5,-11.95) 2(2.5,-10) 2(2.5,-8.05) 2(4.8,-11.95) 2(4.8,-8.05) 2(7.1,-11.95) 2(7.1,-10) 2(7.1,-8.05)
  round 4 hole 3: Un1(14,5.73) Un2(14,-15.73)
F.SilkS:
  lines w0.254: -2.55,2.66 6.45,2.66 6.45,7.02 12,7.02 ; 6.45,-12.66 6.45,-17.02 12,-17.02 ; 6.45,-7.34 6.45,-2.66 ; 16,-17.02 27.67,-17.02 27.67,-5 27.67,7.02 16,7.02
B.SilkS:
  lines w0.254: -2.81,-2.66 7.81,-2.66 7.81,2.66 -2.81,2.66 -2.81,-2.66
Top Assembly:
  lines w0.254: -1.04,-1.2 0.657,0 -1.04,1.2 ; 6.56,-15.45 27.56,-15.45 ; 6.56,-1.2 4.863,0 6.56,1.2 ; 6.56,5.45 27.56,5.45 ; -1.04,-11.9 6.56,-11.9 6.56,-8.1 -1.04,-8.1 -1.04,-11.9 ; -1.04,-1.9 6.56,-1.9 6.56,1.9 -1.04,1.9 -1.04,-1.9 ; 6.56,-16.91 27.56,-16.91 27.56,6.91 6.56,6.91 6.56,-16.91
  text "'.Designator'" at 13.013,-15.59 h1
Top Courtyard:
  lines w0.254: -3.05,-18.23 28.06,-18.23 28.06,8.23 -3.05,8.23 -3.05,-18.23
Top Designator:
  text ".Designator" at 4.887,-5.508 h1.52

## Molex_Mini-Fit_Sr_42820-32XX_1x03_P10.00mm_Horizontal [mm]
pads (8):
  rect 5.1x4.8 hole 2.8: 1(0,0) 1(5,0) 2(0,-10) 2(5,-10) 3(0,-20) 3(5,-20)
  round 4 hole 3: Un1(14,5.73) Un2(14,-25.73)
F.SilkS:
  lines w0.254: -2.55,2.66 6.45,2.66 6.45,7.02 12,7.02 ; 6.45,-22.66 6.45,-27.02 12,-27.02 ; 6.45,-17.34 6.45,-12.66 ; 6.45,-7.34 6.45,-2.66 ; 16,-27.02 27.67,-27.02 27.67,-10 27.67,7.02 16,7.02
B.SilkS:
  lines w0.254: -2.81,-2.66 -2.81,2.66 7.81,2.66 7.81,-2.66 -2.81,-2.66
Top Assembly:
  lines w0.254: -1.04,-1.2 0.657,0 -1.04,1.2 ; 6.56,-25.45 27.56,-25.45 ; 6.56,-1.2 4.863,0 6.56,1.2 ; 6.56,5.45 27.56,5.45 ; -1.04,-21.9 -1.04,-18.1 6.56,-18.1 6.56,-21.9 -1.04,-21.9 ; -1.04,-11.9 -1.04,-8.1 6.56,-8.1 6.56,-11.9 -1.04,-11.9 ; -1.04,-1.9 -1.04,1.9 6.56,1.9 6.56,-1.9 -1.04,-1.9 ; 6.56,-26.91 6.56,6.91 27.56,6.91 27.56,-26.91 6.56,-26.91
  text "'.Designator'" at 13.013,-25.59 h1
Top Courtyard:
  lines w0.254: -3.05,-28.23 -3.05,8.23 28.06,8.23 28.06,-28.23 -3.05,-28.23
Top Designator:
  text ".Designator" at 4.887,-10.508 h1.52